# Altium schematic symbol library Schlib1.SchLib: 65 symbols
Pins are listed as number, name and electrical type; pins without a type are passive.

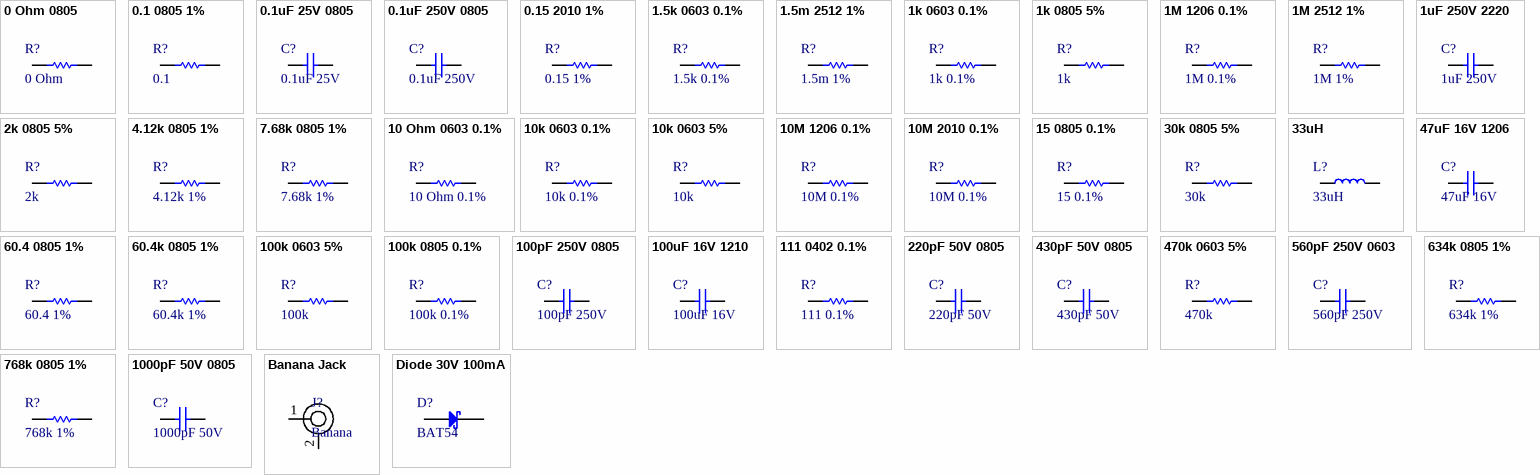
[diagram p0: symbols 0 Ohm 0805 to Diode 30V 100mA]

## 0 Ohm 0805
designator R?, comment 0 Ohm
RES SMD 0 OHM JUMPER 1/8W 0805; Supplier 1: Digi-Key; Supplier Part Number 1: RMCF0805ZT0R00CT-ND
footprint R0805
pins: 1, 2

## 0.1 0805 1%
designator R?, comment 0.1
RES 0.1 OHM 1% 1/2W 0805; Supplier 1: Digi-Key; Supplier Part Number 1: P19308CT-ND
footprint R0805
pins: 1, 2

## 0.1uF 25V 0805
designator C?, comment 0.1uF 25V
CAP CER 0.1UF 25V Y5V 0805; Supplier 1: Digi-Key; Supplier Part Number 1: 1276-1286-1-ND
footprint C0805
pins: 1, 2

## 0.1uF 250V 0805
designator C?, comment 0.1uF 250V
CAP CER 0.1UF 250V X7T 0805; Supplier 1: Digi-Key; Supplier Part Number 1: 445-7965-1-ND
footprint C0805
pins: 1, 2

## 0.15 2010 1%
designator R?, comment 0.15 1%
RES 0.15 OHM 1% 1W 2010; Supplier 1: Digi-Key; Supplier Part Number 1: CSR2010FTR150CT-ND
footprint R2010
pins: 1, 2

## 1.5k 0603 0.1%
designator R?, comment 1.5k 0.1%
RES SMD 1.5K OHM 0.1% 1/5W 0603; Supplier 1: Digi-Key; Supplier Part Number 1: P19990CT-ND
footprint R0603
pins: 1, 2

## 1.5m 2512 1%
designator R?, comment 1.5m 1%
RES 0.0015 OHM 1% 3W 2512; Supplier 1: Digi-Key; Supplier Part Number 1: 696-1184-1-ND
footprint R2512
pins: 1, 2

## 1k 0603 0.1%
designator R?, comment 1k 0.1%
RES SMD 1K OHM 0.1% 1/10W 0603; Supplier 1: Digi-Key; Supplier Part Number 1: YAG2314CT-ND
footprint R0603
pins: 1, 2

## 1k 0805 5%
designator R?, comment 1k
RES SMD 1K OHM 5% 1/8W 0805; Supplier 1: Digi-Key; Supplier Part Number 1: RMCF0805JT1K00CT-ND
footprint R0805
pins: 1, 2

## 1M 1206 0.1%
designator R?, comment 1M 0.1%
RES SMD 1M OHM 0.1% 1/4W 1206; Supplier 1: Digi-Key; Supplier Part Number 1: YAG5104CT-ND
footprint R1206
pins: 1, 2

## 1M 2512 1%
designator R?, comment 1M 1%
CHV2512-FX-1004ELF; Supplier 1: Digi-Key; Supplier Part Number 1: CHV2512-FX-1004ELFCT-ND
footprint R2512
pins: 1, 2

## 1uF 250V 2220
designator C?, comment 1uF 250V
CAP CER 1UF 250V X7R 2220; Supplier 1: Digi-Key; Supplier Part Number 1: 490-3550-1-ND
footprint C2220
pins: 1, 2

## 2k 0805 5%
designator R?, comment 2k
RES SMD 2K OHM 5% 1/8W 0805; Supplier 1: Digi-Key; Supplier Part Number 1: RMCF0805JT2K00CT-ND
footprint R0805
pins: 1, 2

## 4.12k 0805 1%
designator R?, comment 4.12k 1%
RES SMD 4.12K OHM 1% 1/8W 0805; Supplier 1: Digi-Key; Supplier Part Number 1: 311-4.12KCRCT-ND
footprint R0805
pins: 1, 2

## 7.68k 0805 1%
designator R?, comment 7.68k 1%
RES SMD 7.68K OHM 1% 1/8W 0805; Supplier 1: Digi-Key; Supplier Part Number 1: 311-7.68KCRCT-ND
footprint R0805
pins: 1, 2

## 10 Ohm 0603 0.1%
designator R?, comment 10 Ohm 0.1%
RES SMD 10 OHM 0.1% 1/10W 0603; Supplier 1: Digi-Key; Supplier Part Number 1: YAG3350CT-ND
footprint R0603
pins: 1, 2

## 10k 0603 0.1%
designator R?, comment 10k 0.1%
RES SMD 10K OHM 0.1% 1/10W 0603; Supplier 1: Digi-Key; Supplier Part Number 1: YAG2313CT-ND
footprint R0603
pins: 1, 2

## 10k 0603 5%
designator R?, comment 10k
RES SMD 10K OHM 5% 1/10W 0603; Supplier 1: Digi-Key; Supplier Part Number 1: 311-10KGRCT-ND
footprint R0603
pins: 1, 2

## 10M 1206 0.1%
designator R?, comment 10M 0.1%
RES 10M OHM 0.1% 1/3W 1206; Supplier 1: Digi-Key; Supplier Part Number 1: HVCB1206BDE10M0CT-ND
footprint R1206
pins: 1, 2

## 10M 2010 0.1%
designator R?, comment 10M 0.1%
RES SMD 10M OHM 0.1% 1W 2010; Supplier 1: Digi-Key; Supplier Part Number 1: HVCB2010BDE10M0CT-ND
footprint R2010
pins: 1, 2

## 15 0805 0.1%
designator R?, comment 15 0.1%
RES SMD 15 OHM 0.1% 1/8W 0805; Supplier 1: Digi-Key; Supplier Part Number 1: YAG4833CT-ND
footprint R0805
pins: 1, 2

## 30k 0805 5%
designator R?, comment 30k
RES SMD 30K OHM 5% 1/8W 0805; Supplier 1: Digi-Key; Supplier Part Number 1: RMCF0805JT30K0CT-ND
footprint R0805
pins: 1, 2

## 33uH
designator L?
FIXED IND 33UH 4.2A 45 MOHM SMD; Supplier 1: Digi-Key; Supplier Part Number 1: 732-1244-1-ND
footprint Wurth 7447709330 (FIXED IND 33UH 4.2A 45 MOHM SMD)
pins: 1, 2

## 47uF 16V 1206
designator C?, comment 47uF 16V
CAP CER 47UF 16V JB 1206; Supplier 1: Digi-Key; Supplier Part Number 1: 445-11695-1-ND
footprint C1206
pins: 1, 2

## 60.4 0805 1%
designator R?, comment 60.4 1%
RES SMD 60.4 OHM 1% 1/8W 0805; Supplier 1: Digi-Key; Supplier Part Number 1: 311-60.4CRCT-ND
footprint R0805
pins: 1, 2

## 60.4k 0805 1%
designator R?, comment 60.4k 1%
RES SMD 60.4K OHM 1% 1/8W 0805; Supplier 1: Digi-Key; Supplier Part Number 1: 311-60.4KCRCT-ND
footprint R0805
pins: 1, 2

## 100k 0603 5%
designator R?, comment 100k
RES SMD 100K OHM 5% 1/10W 0603; Supplier 1: Digi-Key; Supplier Part Number 1: 311-100KGRCT-ND
footprint R0603
pins: 1, 2

## 100k 0805 0.1%
designator R?, comment 100k 0.1%
RES SMD 100K OHM 0.1% 1/8W 0805; Supplier 1: Digi-Key; Supplier Part Number 1: YAG2326CT-ND
footprint R0805
pins: 1, 2

## 100pF 250V 0805
designator C?, comment 100pF 250V
CAP CER 100PF 250V C0G/NP0 0805; Supplier 1: Digi-Key; Supplier Part Number 1: 399-15000-1-ND
footprint C0805
pins: 1, 2

## 100uF 16V 1210
designator C?, comment 100uF 16V
CAP CER 100UF 16V X5R 1210; Supplier 1: Digi-Key; Supplier Part Number 1: 587-5426-1-ND
footprint C1210
pins: 1, 2

## 111 0402 0.1%
designator R?, comment 111 0.1%
RES 111 OHM 0.1% 1/10W 0402; Supplier 1: Digi-Key; Supplier Part Number 1: 541-2065-1-ND
footprint R0402
pins: 1, 2

## 220pF 50V 0805
designator C?, comment 220pF 50V
CAP CER 220PF 50V X7R 0805; Supplier 1: Digi-Key; Supplier Part Number 1: 399-8039-1-ND
footprint C0805
pins: 1, 2

## 430pF 50V 0805
designator C?, comment 430pF 50V
CAP CER 430PF 50V C0G/NP0 0805; Supplier 1: Digi-Key; Supplier Part Number 1: 1276-2659-1-ND
footprint C0805
pins: 1, 2

## 470k 0603 5%
designator R?, comment 470k
RES SMD 470K OHM 5% 1/10W 0603; Supplier 1: Digi-Key; Supplier Part Number 1: 311-470KGRCT-ND
pins: 1, 2

## 560pF 250V 0603
designator C?, comment 560pF 250V
CAP CER 560PF 250V C0G/NP0 0603; Supplier 1: Digi-Key; Supplier Part Number 1: 399-11888-1-ND
footprint C0603
pins: 1, 2

## 634k 0805 1%
designator R?, comment 634k 1%
RES SMD 634K OHM 1% 1/8W 0805; Supplier 1: Digi-Key; Supplier Part Number 1: 311-634KCRCT-ND
footprint R0805
pins: 1, 2

## 768k 0805 1%
designator R?, comment 768k 1%
RES SMD 768K OHM 1% 1/8W 0805; Supplier 1: Digi-Key; Supplier Part Number 1: 311-768KCRCT-ND
footprint R0805
pins: 1, 2

## 1000pF 50V 0805
designator C?, comment 1000pF 50V
CAP CER 1000PF 50V X7R 0805; Supplier 1: Digi-Key; Supplier Part Number 1: 399-1147-1-ND
footprint C0805
pins: 1, 2

## Banana Jack
designator J?, comment Banana
SOCKET, PCB, 4MM, R/A, S16N-PC, YEL; Supplier 1: Newark; Supplier Part Number 1: 20T2058; Supplier 2: Newark; Supplier Part Number 2: 20T2059; Supplier 3: Newark; Supplier Part Number 3: 20T2055
footprint FCR7350 (Banana Jack)
pins: 1, 2

## Diode 30V 100mA
designator D?, comment BAT54
DIODE BAT54 SCHOTTKY 30V 100MA SOD323; Supplier 1: Digi-Key; Supplier Part Number 1: BAT54WS-FDICT-ND
footprint SOD-323
pins: 1 A, 2 K

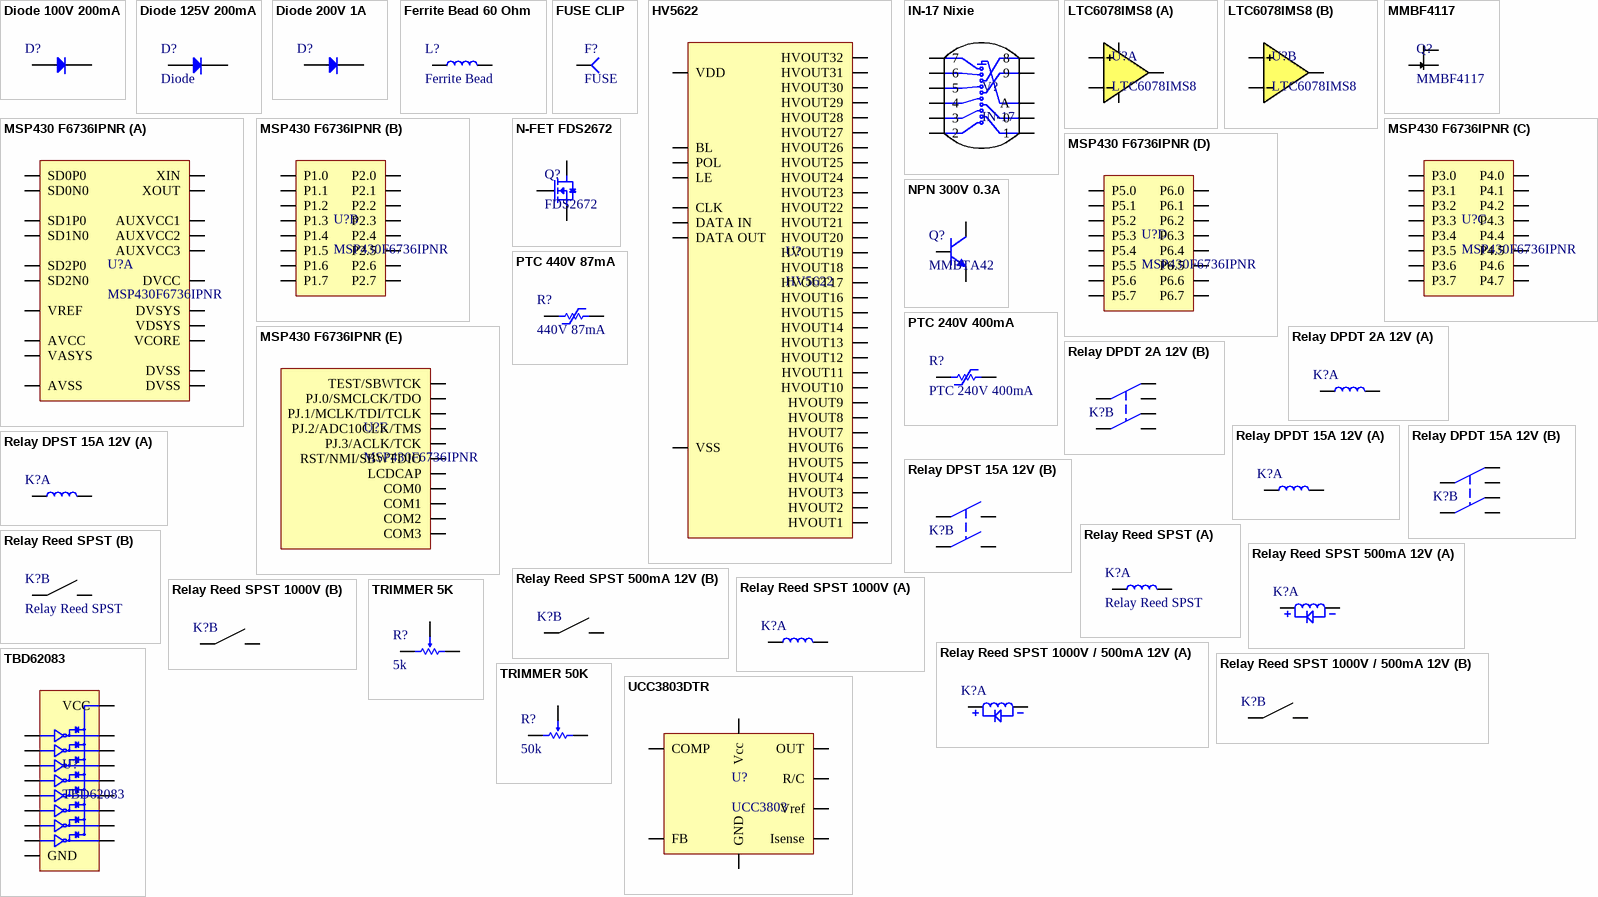
[diagram p1: symbols Diode 100V 200mA to UCC3803DTR]

## Diode 100V 200mA
designator D?, comment Diode  (value not drawn)
DIODE GEN PURP 100V 200MA LL34; Supplier 1: Digi-Key; Supplier Part Number 1: FDLL4148CT-ND
footprint SOD80
pins: 1 A, 2 K

## Diode 125V 200mA
designator D?, comment Diode
DIODE GEN PURP 125V 200MA LL34; Supplier 1: Digi-Key; Supplier Part Number 1: FDLL3595CT-ND
footprint SOD80
pins: 1 A, 2 K

## Diode 200V 1A
designator D?, comment Diode  (value not drawn)
DIODE GEN PURP 200V 1A SMA; Supplier 1: Digi-Key; Supplier Part Number 1: ES1DFSCT-ND
footprint SMA (SMA (DO-214AC))
pins: 1 A, 2 K

## Ferrite Bead 60 Ohm
designator L?, comment Ferrite Bead
FERRITE BEAD 60 OHM 0805 1LN; Supplier 1: Digi-Key; Supplier Part Number 1: 587-1932-1-ND
footprint R0805
pins: 1, 2

## FUSE CLIP
designator F?, comment FUSE
FUSE CLIP CARTRIDGE 30A PCB; Supplier 1: Digi-Key; Supplier Part Number 1: 36-3566-ND
footprint FUSE CLIP (FUSE CLIP CARTRIDGE 30A PCB)
pins: 1

## HV5622
designator U?
IC 32BIT SRL PARALLEL 220V 44PQF; Supplier 1: Digi-Key; Supplier Part Number 1: HV5622PG-G-ND
footprint 44-PQFP
pins: 1 HVOUT22, 2 HVOUT21, 3 HVOUT20, 4 HVOUT19, 5 HVOUT18, 6 HVOUT17, 7 HVOUT16, 8 HVOUT15, 9 HVOUT14, 10 HVOUT13, 11 HVOUT12, 12 HVOUT11, 13 HVOUT10, 14 HVOUT9, 15 HVOUT8, 16 HVOUT7, 17 HVOUT6, 18 HVOUT5, 19 HVOUT4, 20 HVOUT3, 21 HVOUT2, 22 HVOUT1, 23 DATA OUT, 27 POL, 28 CLK, 29 VSS, 30 VDD, 31 LE, 32 DATA IN, 33 BL, 35 HVOUT32, 36 HVOUT31, 37 HVOUT30, 38 HVOUT29, 39 HVOUT28, 40 HVOUT27, 41 HVOUT26, 42 HVOUT25, 43 HVOUT24, 44 HVOUT23

## IN-17 Nixie
designator V?, comment IN-17
IN-17 Nixie Display Tube
footprint IN-17 (IN-17 Nixie)
pins: 1 A, 2 0, 3 1, 4 2, 5 3, 6 4, 7 5, 8 6, 9 7, 10 8, 11 9

## LTC6078IMS8
designator U?
Supplier 1: Digi-Key; Supplier Part Number 1: LTC6078IMS8#PBF-ND
footprint 8MSOP
part A pins: 1, 2, 3, 4, 8
part B pins: 5, 6, 7

## MMBF4117
designator Q?
JFET N-CH 40V 0.225W SOT23; Supplier 1: Digi-Key; Supplier Part Number 1: MMBF4117CT-ND
footprint SOT_23
pins: 1, 2, 3

## MSP430 F6736IPNR
designator U?, comment MSP430F6736IPNR
IC MCU 16BIT 128KB FLASH 80LQFP; Supplier 1: Digi-Key; Supplier Part Number 1: 296-30130-1-ND; Supplier 2: Digi-Key; Supplier Part Number 2: 296-30427-ND
footprint 80-LQFP
part A pins: 1 SD0P0, 2 SD0N0, 3 SD1P0, 4 SD1N0, 5 SD2P0, 6 SD2N0, 7 VREF, 8 AVSS, 9 AVCC, 10 VASYS, 15 AUXVCC2, 16 AUXVCC1, 17 VDSYS, 18 DVCC, 19 DVSS, 20 VCORE, 21 XIN, 22 XOUT, 23 AUXVCC3, 59 DVSYS, 60 DVSS
part B pins: 11 P1.0, 12 P1.1, 13 P1.2, 14 P1.3, 24 P1.4, 25 P1.5, 31 P1.6, 32 P1.7, 33 P2.0, 34 P2.1, 35 P2.2, 36 P2.3, 37 P2.4, 38 P2.5, 39 P2.6, 40 P2.7
part C pins: 41 P3.0, 42 P3.1, 43 P3.2, 44 P3.3, 45 P3.4, 46 P3.5, 47 P3.6, 48 P3.7, 49 P4.0, 50 P4.1, 51 P4.2, 52 P4.3, 53 P4.4, 54 P4.5, 55 P4.6, 56 P4.7
part D pins: 57 P5.0, 58 P5.1, 61 P5.2, 62 P5.3, 63 P5.4, 64 P5.5, 65 P5.6, 66 P5.7, 67 P6.0, 68 P6.1, 69 P6.2, 70 P6.3, 71 P6.4, 72 P6.5, 73 P6.6, 74 P6.7
part E pins: 26 LCDCAP, 27 COM0, 28 COM1, 29 COM2, 30 COM3, 75 TEST/SBWTCK, 76 PJ.0/SMCLCK/TDO, 77 PJ.1/MCLK/TDI/TCLK, 78 PJ.2/ADC10CLK/TMS, 79 PJ.3/ACLK/TCK, 80 RST/NMI/SBWTDIO

## N-FET FDS2672
designator Q?, comment FDS2672
MOSFET N-CH 200V 3.9A 8-SOIC; Supplier 1: Digi-Key; Supplier Part Number 1: FDS2672CT-ND
footprint 8-SOIC
pins: 1, 2, 3, 4, 5, 6, 7, 8

## NPN 300V 0.3A
designator Q?, comment MMBTA42
TRANS MMBTA42 NPN 300V 0.3A SOT23; Supplier 1: Digi-Key; Supplier Part Number 1: MMBTA42TPMSCT-ND
footprint SOT_23
pins: 1 C, 2 B, 3 E

## PTC 240V 400mA
designator R?
PTC RESET FUSE 240V 400MA RADIAL; Supplier 1: Digi-Key; Supplier Part Number 1: 507-1354-ND
footprint 0ZRE0040FF1A (PTC RESET FUSE 240V 400MA RADIAL)
pins: 1, 2

## PTC 440V 87mA
designator R?, comment 440V 87mA
PTC RESET FUSE 440V 87MA RADIAL; Supplier 1: Digi-Key; Supplier Part Number 1: 495-7219-ND
footprint B59751C0120A070 (PTC RESET FUSE 440V 87MA RADIAL)
pins: 1, 2

## Relay DPDT 2A 12V
designator K?
RELAY GEN PURPOSE DPDT 2A 12V; Supplier 1: Digi-Key; Supplier Part Number 1: 399-11033-5-ND
footprint EE2-12NU (Relay DPDT 2A 12V)
part A pins: 1, 12
part B pins: 3, 4, 5, 8, 9, 10

## Relay DPDT 15A 12V
designator K?  (value not drawn)
RELAY GEN PURPOSE DPDT 15A 12V; Supplier 1: Digi-Key; Supplier Part Number 1: PB327-ND
footprint K10-pcb (K10 relay, PCB mount)
part A pins: 7, 8
part B pins: 1, 2, 3, 4, 5, 6

## Relay DPST 15A 12V
designator K?  (value not drawn)
RELAY GEN PURPOSE DPST 15A 12V; Supplier 1: Digi-Key; Supplier Part Number 1: Z3693-ND
footprint G4W-2212P-US-TV5 (Relay DPST 15A 12V)
part A pins: 5, 6
part B pins: 1, 2, 3, 4

## Relay Reed SPST
designator K?
RELAY REED SPST 500MA 5V; Supplier 1: Digi-Key; Supplier Part Number 1: 306-1062-ND
part A pins: 2, 3
part B pins: 1, 4

## Relay Reed SPST 500mA 12V
designator K?  (value not drawn)
Supplier 1: Digi-Key; Supplier Part Number 1: HE209-ND
footprint HE3621A (RELAY REED SPST)
part A pins: 2, 3
part B pins: 1, 4

## Relay Reed SPST 1000V
designator K?, comment Relay  (value not drawn)
RELAY REED SPST 1A 5V; Supplier 1: Digi-Key; Supplier Part Number 1: 374-1406-5-ND
part A pins: 2, 3
part B pins: 1, 4

## Relay Reed SPST 1000V / 500mA 12V
designator K?  (value not drawn)
RELAY REED SPST 500MA 12V; Supplier 1: Digi-Key; Supplier Part Number 1: 306-1196-ND
footprint Coto 9104-12-11 (RELAY REED SPST 500MA 12V)
part A pins: 3, 5
part B pins: 1, 7

## TBD62083
designator U?
IC LOAD SWITCH 8CH 0.5A 18SOP; Supplier 1: Digi-Key; Supplier Part Number 1: TBD62083AFWGELCT-ND
footprint 18-SOIC
pins: 1 I1, 2 I2, 3 I3, 4 I4, 5 I5, 6 I6, 7 I7, 8 I8, 9 GND, 10 VCC, 11 O8, 12 O7, 13 O6, 14 O5, 15 O4, 16 O3, 17 O2, 18 O1

## TRIMMER 5K
designator R?, comment 5k
TRIMMER 5K OHM 0.5W TH; Supplier 1: Digi-Key; Supplier Part Number 1: 490-2888-ND
footprint PV36 (PV36 Trimmer Potentiometer)
pins: 1, 2, 3

## TRIMMER 50K
designator R?, comment 50k
TRIMMER 50K OHM 0.5W TH; Supplier 1: Digi-Key; Supplier Part Number 1: 490-2889-ND
footprint PV36 (PV36 Trimmer Potentiometer)
pins: 1, 2, 3

## UCC3803DTR
designator U?, comment UCC3803
IC REG CTRLR MULT TOPOLOGY 8SOIC; Supplier 1: Digi-Key; Supplier Part Number 1: 296-38327-1-ND
footprint 8-SOIC
pins: 1 COMP, 2 FB, 3 Isense, 4 R/C, 5 GND, 6 OUT, 7 Vcc, 8 Vref